# EAGLE library part 632722200211 (library Eagle_WR-USB (rev25c))
WR-COM USB 3.1 Type C Receptacle Horizontal SMT General Information Operating Temperature -30 up to +85 °C Durability 10 000 Mating cycles Gender Receptacle Type Horizontal Electrical Properties Working Voltage 20 V (DC) Withstanding Voltage 100 V (AC) Contact Resistance 40 mΩ Material Properties Insulator Material LCP Insulator Flammability Rating UL94 V-0 Insulator Color Black Contact Material Brass Contact Plating Gold over Nickel Shielding Material Steel Shielding Plating Nickel <https://www.we-online.com/components/media/o765249v209%20Multi-WR-USB31-632722200211.jpg> Details see: www.we-online.com/components/products/COM_USB_3_1_TYPE_C_RECEPTACLE_HORIZONTAL_SMT <www.we-online.com/catalog/COM_USB_3_1_TYPE_C_RECEPTACLE_HORIZONTAL_SMT/?utm_source=eagle_model&utm_medium=description_link&utm_campaign=eisos_eagle> Created by Ella Wu 2023-12-11 2023 (C) Wurth Elektronik
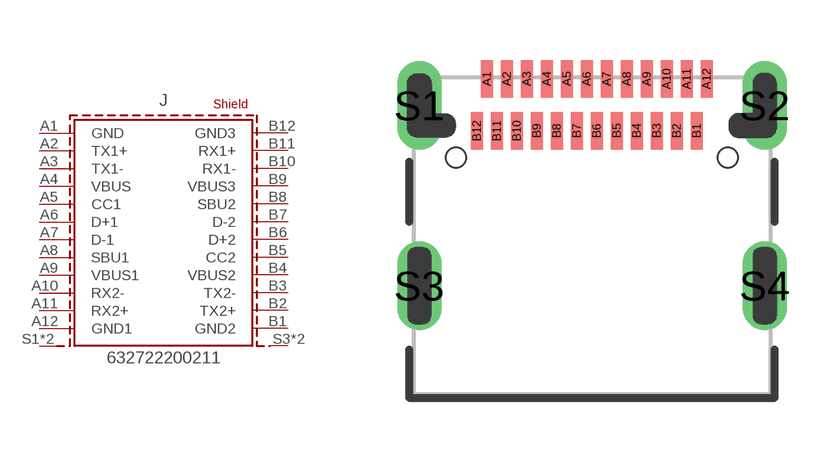
[diagram p21: symbol with the pads of 632722200211; footprint 632722200211]

Designator prefix J

## 632722200211 (APPLICATION: USB 3.2 Gen 1; DATASHEET-URL: https://www.we-online.com/redexpert/spec/632722200211?ae; GERDER: Receptacle; INTERFACE-TYPE: Type C; MOUNT: SMT; PACKAGING: Tape and Reel; PART-NUMBER: 632722200211; PINS: 24pcs; TYPE: Horizontal; VALUE: 632722200211; WORKING-VOLTAGE: V(AC))  [632722200211]
A1  GND  pas
A2  TX1+  pas
A3  TX1-  pas
A4  VBUS  pas
A5  CC1  pas
A6  D+1  pas
A7  D-1  pas
A8  SBU1  pas
A9  VBUS1  pas
A10  RX2-  pas
A11  RX2+  pas
A12  GND1  pas
B1  GND2  pas
B2  TX2+  pas
B3  TX2-  pas
B4  VBUS2  pas
B5  CC2  pas
B6  D+2  pas
B7  D-2  pas
B8  SBU2  pas
B9  VBUS3  pas
B10  RX1-  pas
B11  RX1+  pas
B12  GND3  pas
S1  SHIELD  pas
S2  SHIELD  pas
S3  SHIELD1  pas
S4  SHIELD1  pas

## Footprint 632722200211 (pad centres in mm)
WR-COM USB 3.1 Type C Receptacle Horizontal SMT
smd 0.3 x 0.95: A1 -2.625,5.175; A2 -2.125,5.175; A3 -1.625,5.175; A4 -1.125,5.175; A5 -0.625,5.175; A6 -0.125,5.175; A7 0.375,5.175; A8 0.875,5.175; A9 1.375,5.175; A10 1.875,5.175; A11 2.375,5.175; A12 2.875,5.175; B1 2.625,3.875; B2 2.125,3.875; B3 1.625,3.875; B4 1.125,3.875; B5 0.625,3.875; B6 0.125,3.875; B7 -0.375,3.875; B8 -0.875,3.875; B9 -1.375,3.875; B10 -1.875,3.875; B11 -2.375,3.875; B12 -2.875,3.875
drill 0.6 pad 1.016 long: S1 -4.32,4.51; S2 4.32,4.51; S3 -4.32,0; S4 4.32,0
hole 0.5 at -3.4,3.2
hole 0.5 at 3.4,3.2